# Altium footprint library LM1171Foot.PcbLib: 1 footprints
Each footprint in its own frame and in the unit in brackets; x right, y up, seen from the top. Pads: shape width x height; smd on the part's side, far side on the other; paste and mask are expansions set on the pad; w line width, h text height; cw(c..) or ccw(c..) is an arc to the next point about the centre after c.
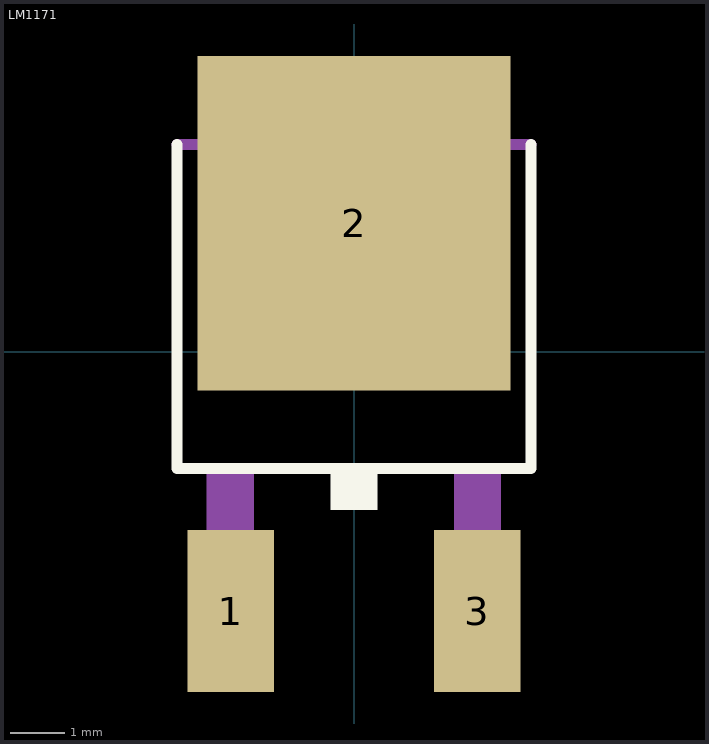
[diagram p0: the footprint, top view; thin cyan lines are the x and y axes]

## LM1171 [mm]
pads (3):
  rect 1.6x3 smd: 1(-2.28,-4.8) 3(2.28,-4.8)
  rect 5.8x6.2 smd: 2(0,2.38)
Top Overlay:
  region: 0.432,-2.925 -0.432,-2.925 -0.432,-2.159 0.432,-2.159
  lines w0.203: -3.277,3.835 -3.277,-2.159 3.277,-2.159 3.277,3.835
Mechanical 13:
  region: 2.565,4.648 2.565,3.937 -2.565,3.937 -2.565,4.648 -2.108,5.105 2.108,5.105
  region: 2.718,-5.166 1.858,-5.166 1.858,-2.261 2.718,-2.261
  region: -1.854,-5.164 -2.722,-5.164 -2.722,-2.261 -1.854,-2.261
  lines w0.203: -3.277,3.835 3.277,3.835 ; -2.565,3.937 2.565,3.937 2.565,4.648 2.108,5.105 -2.108,5.105 -2.565,4.648 -2.565,3.937